# Altium footprint library drone_pcb1.PcbLib: 55 footprints (part 3 of 4)
Each footprint in its own frame and in the unit in brackets; x right, y up, seen from the top. Pads: shape width x height; smd on the part's side, far side on the other; paste and mask are expansions set on the pad; w line width, h text height; cw(c..) or ccw(c..) is an arc to the next point about the centre after c.
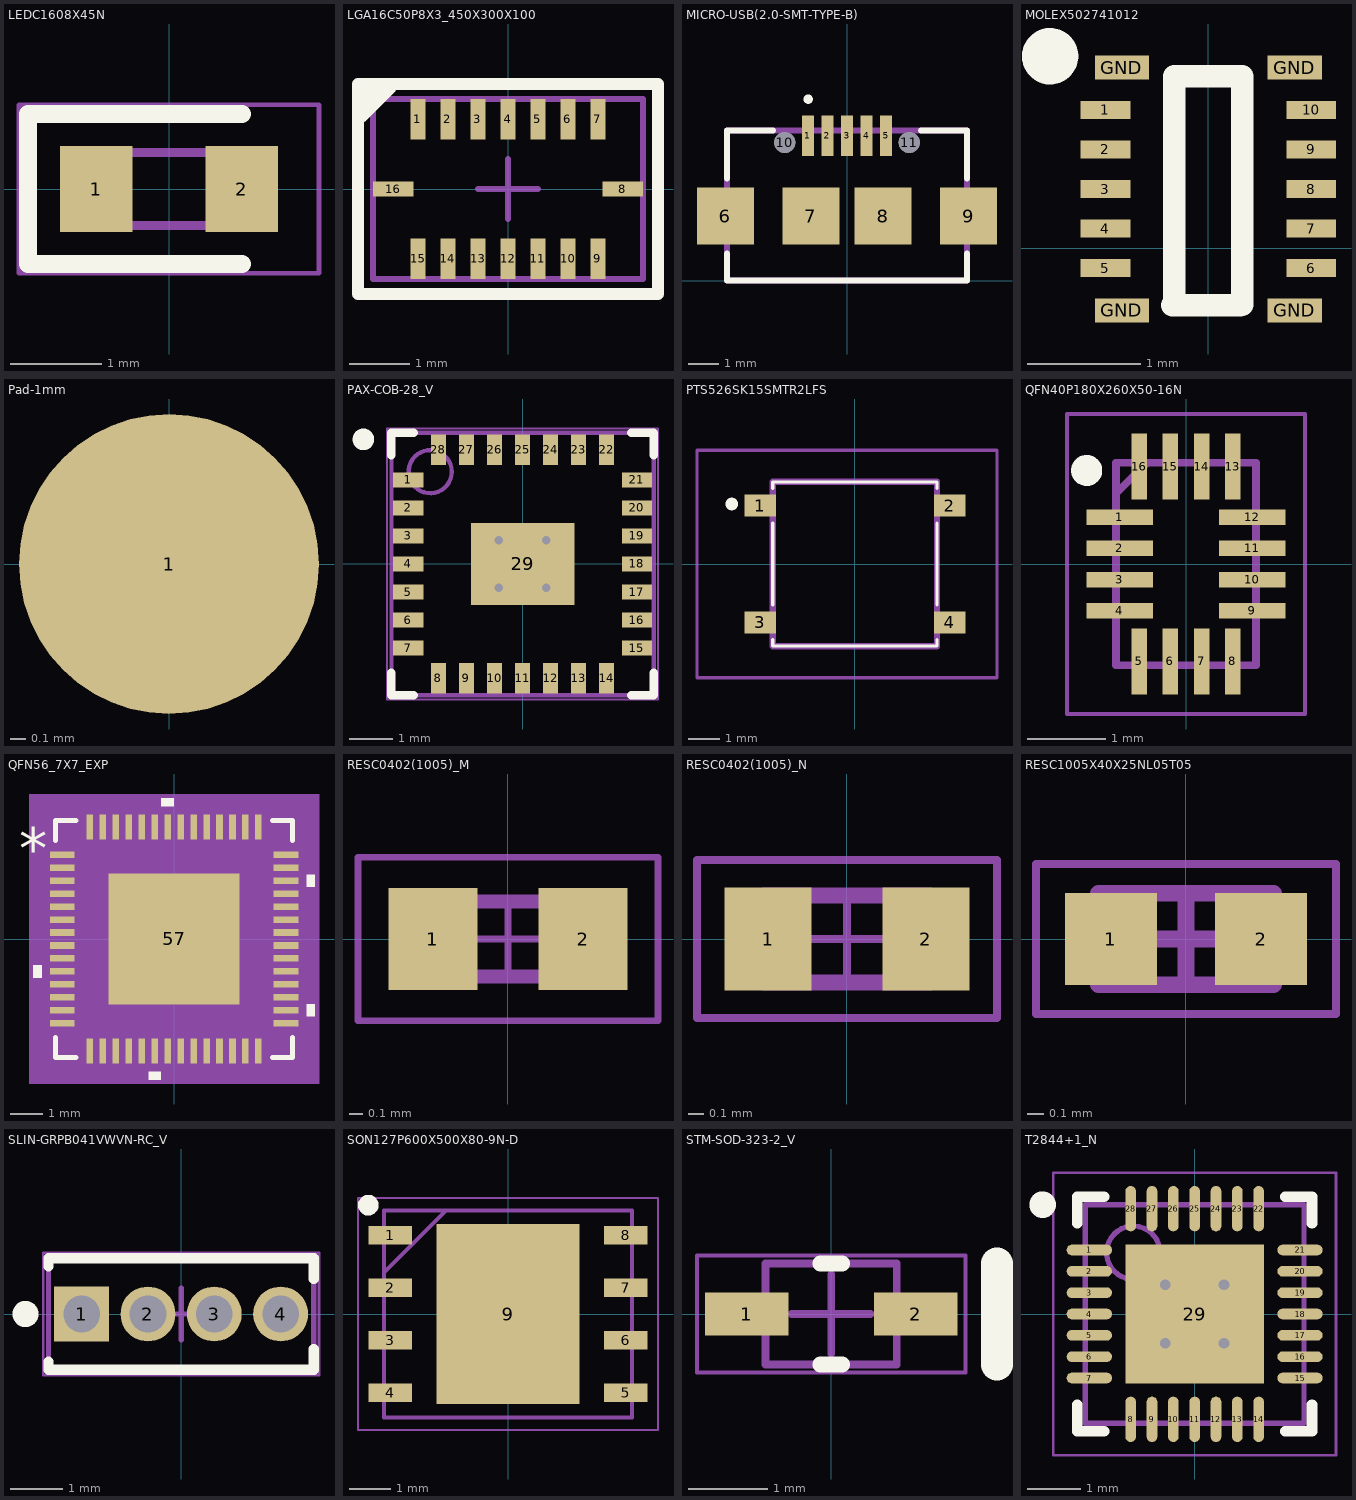
[diagram p2: the footprints below, top view; thin cyan lines are the x and y axes]

## LEDC1608X45N [mm]
pads (2):
  rect 0.8x0.95 smd: 1(-0.8,0) 2(0.8,0)
Top Overlay:
  lines w0.2: 0.8,-0.825 -1.55,-0.825 -1.55,0.825 0.8,0.825
Mechanical 13:
  lines w0.1: -0.8,0.133 -0.533,0.4 ; -0.8,-0.4 0.8,-0.4 0.8,0.4 -0.8,0.4 -0.8,-0.4
Mechanical 15:
  lines w0.05: -1.65,-0.925 1.65,-0.925 1.65,0.925 -1.65,0.925 -1.65,-0.925

## LGA16C50P8X3_450X300X100 [mm] "LGA, 16-Leads, Body 4.50x3.00mmx1.00mm, Pitch 0.50mm"
height 1
pads (16):
  rect 0.25x0.675 smd: 1(-1.5,1.165) 2(-1,1.165) 3(-0.5,1.165) 4(0,1.165) 5(0.5,1.165) 6(1,1.165) 7(1.5,1.165) 9(1.5,-1.165) 10(1,-1.165) 11(0.5,-1.165) 12(0,-1.165) 13(-0.5,-1.165) 14(-1,-1.165) 15(-1.5,-1.165)
  rect 0.675x0.25 smd: 8(1.915,0) 16(-1.915,0)
Top Overlay:
  region: -1.95,1.7 -2.45,1.2 -2.45,1.7
  lines w0.2: -2.45,1.2 -1.95,1.7 ; -2.5,-1.75 -2.5,1.75 2.5,1.75 2.5,-1.75 -2.5,-1.75
Mechanical 13:
  lines w0.1: -2.25,-1.5 -2.25,1.5 2.25,1.5 2.25,-1.5 -2.25,-1.5
Mechanical 15:
  lines w0.05: -2.5,-1.75 -2.5,1.75 2.5,1.75 2.5,-1.75 -2.5,-1.75
  lines w0.1: -0.5,0 0.5,0 ; 0,-0.5 0,0.5
3D body: height 1, standoff 0.08, extent -2.25,-1.5 2.25,1.5

## MICRO-USB(2.0-SMT-TYPE-B) [mm]
pads (11):
  rect 0.4x1.35 smd: 1(-1.3,4.825) 2(-0.65,4.825) 3(0,4.825) 4(0.65,4.825) 5(1.3,4.825)
  rect 1.9x1.9 smd: 6(-4.05,2.15) 7(-1.2,2.15) 8(1.2,2.15) 9(4.05,2.15)
  round 0.7 hole 0.7: 10(-2.075,4.6) 11(2.075,4.6)
Top Overlay:
  circle w0.2: c-1.295,6.047 r0.056
  lines w0.2: -4,0.9 -4,0 4,0 4,0.9 ; -4,3.403 -4,5 -2.459,5 ; 2.459,5 4,5 4,3.403
Mechanical 13:
  lines w0.2: -4,0 4,0 4,5 -4,5 -4,0
3D body "629105136821.stp": height 2.78, standoff -0.4, extent -4.035,-0.662 4.035,5.138

## MOLEX502741012 [mm] "10Pins 0.35mm pitch"
height 0.9
pads (14):
  rect 0.44x0.16 smd: 1(-0.91,1.225) 2(-0.91,0.875) 3(-0.91,0.525) 4(-0.91,0.175) 5(-0.91,-0.175) 6(0.91,-0.175) 7(0.91,0.175) 8(0.91,0.525) 9(0.91,0.875) 10(0.91,1.225)
  rect 0.48x0.21 smd: GND(-0.765,-0.55) GND(-0.765,1.6) GND(0.765,-0.55) GND(0.765,1.6)
Top Overlay:
  circle w0.25: c-1.4,1.7 r0.125
  lines w0.2: -0.317,-0.502 0.283,-0.502 ; -0.3,-0.5 -0.3,1.5 ; -0.3,1.524 0.3,1.524 ; 0.3,-0.5 0.3,1.5
3D body "5052741012.stp": height 0.65, standoff 0, extent -1,-1.01 1,2.05

## Pad-1mm [mm] "SMT Test Pad"
height 15
pads (1):
  round 2 smd paste-5: 1(0,0)
Mechanical 15:
  lines w0.1: -0.5,0 0.5,0 ; 0,-0.5 0,0.5

## PAX-COB-28_V [mm] "PQFN, 28-Leads, Body 6.08x6.08mm, Pitch 0.65mm, Thermal Pad 1.9x2.4mm"
height 2.36
pads (29):
  rect 0.7x0.35 smd mask+0.05: 1(-2.65,1.95) 2(-2.65,1.3) 3(-2.65,0.65) 4(-2.65,0) 5(-2.65,-0.65) 6(-2.65,-1.3) 7(-2.65,-1.95) 15(2.65,-1.95) 16(2.65,-1.3) 17(2.65,-0.65) 18(2.65,0) 19(2.65,0.65) 20(2.65,1.3) 21(2.65,1.95)
  rect 0.35x0.7 smd mask+0.05: 8(-1.95,-2.65) 9(-1.3,-2.65) 10(-0.65,-2.65) 11(0,-2.65) 12(0.65,-2.65) 13(1.3,-2.65) 14(1.95,-2.65) 22(1.95,2.65) 23(1.3,2.65) 24(0.65,2.65) 25(0,2.65) 26(-0.65,2.65) 27(-1.3,2.65) 28(-1.95,2.65)
  rect 2.4x1.9 smd mask+0: 29(0,0)
via 0.55,-0.55 diameter 0.5 hole 0.2
via -0.55,-0.55 diameter 0.5 hole 0.2
via 0.55,0.55 diameter 0.5 hole 0.2
via -0.55,0.55 diameter 0.5 hole 0.2
Top Overlay:
  circle w0.25: c-3.69,2.89 r0.125
  lines w0.2: -3.04,-2.525 -3.04,-3.04 -2.525,-3.04 ; -3.04,2.525 -3.04,3.04 -2.525,3.04 ; 2.525,-3.04 3.04,-3.04 3.04,-2.525 ; 2.525,3.04 3.04,3.04 3.04,2.525
Mechanical 13:
  circle w0.1: c-2.14,2.14 r0.5
  lines w0.1: -3.04,-3.04 3.04,-3.04 3.04,3.04 -3.04,3.04 -3.04,-3.04
Mechanical 15:
  lines w0.05: -3.14,-3.14 3.14,-3.14 3.14,3.14 -3.14,3.14 -3.14,-3.14
  lines w0.1: -0.5,0 0.5,0 ; 0,-0.5 0,0.5
3D body "PQFN65P600X600X236_HS-29L.step": height 2.36, standoff 0, extent -3.04,-3.04 3.04,3.04

## PTS526SK15SMTR2LFS [mm]
pads (4):
  rect 1x0.7 smd: 1(-3,1.85) 2(3,1.85) 3(-3,-1.85) 4(3,-1.85)
Top Overlay:
  lines w0.1: -2.6,-2.4 -2.6,-2.6 2.6,-2.6 2.6,-2.4 ; -2.6,-1.3 -2.6,1.3 ; -2.6,2.4 -2.6,2.6 2.6,2.6 2.6,2.4 ; 2.6,-1.3 2.6,1.3
  lines w0.2: -4,1.9 ccw(c-3.9,1.9) -3.8,1.9 ccw(c-3.9,1.9) -4,1.9
Mechanical 13:
  lines w0.2: -2.6,-2.6 2.6,-2.6 2.6,2.6 -2.6,2.6 -2.6,-2.6
Mechanical 15:
  lines w0.1: -5,-3.6 4.5,-3.6 4.5,3.6 -5,3.6 -5,-3.6
3D body "PTS526_SK15_SMTR2_LFS.stp": height 1.55, standoff 0, extent -3.2,-2.6 3.2,2.6

## QFN40P180X260X50-16N [mm]
pads (16):
  rect 0.85x0.2 smd: 1(-0.85,0.6) 2(-0.85,0.2) 3(-0.85,-0.2) 4(-0.85,-0.6) 9(0.85,-0.6) 10(0.85,-0.2) 11(0.85,0.2) 12(0.85,0.6)
  rect 0.2x0.85 smd: 5(-0.6,-1.25) 6(-0.2,-1.25) 7(0.2,-1.25) 8(0.6,-1.25) 13(0.6,1.25) 14(0.2,1.25) 15(-0.2,1.25) 16(-0.6,1.25)
Top Overlay:
  circle w0.2: c-1.275,1.2 r0.1
Mechanical 13:
  lines w0.1: -0.9,0.9 -0.5,1.3 ; -0.9,-1.3 0.9,-1.3 0.9,1.3 -0.9,1.3 -0.9,-1.3
Mechanical 15:
  lines w0.05: -1.525,-1.925 1.525,-1.925 1.525,1.925 -1.525,1.925 -1.525,-1.925
3D body "PCAL6408AHKX.stp": height 0.5, standoff 0, extent -0.95,-1.35 0.95,1.35

## QFN56_7X7_EXP [mil]
pads (57):
  rect 30x8 smd paste+0 mask+0: 1(-136,102.36) 2(-136,86.61) 3(-136,70.87) 4(-136,55.12) 5(-136,39.37) 6(-136,23.62) 7(-136,7.87) 8(-136,-7.87) 9(-136,-23.62) 10(-136,-39.37) 11(-136,-55.12) 12(-136,-70.87) 13(-136,-86.61) 14(-136,-102.36) 29(136,-102.36) 30(136,-86.61) 31(136,-70.87) 32(136,-55.12) 33(136,-39.37) 34(136,-23.62) 35(136,-7.87) 36(136,7.87) 37(136,23.62) 38(136,39.37) 39(136,55.12) 40(136,70.87) 41(136,86.61) 42(136,102.36)
  rect 8x30 smd paste+0 mask+0: 15(-102.36,-136) 16(-86.61,-136) 17(-70.87,-136) 18(-55.12,-136) 19(-39.37,-136) 20(-23.62,-136) 21(-7.87,-136) 22(7.87,-136) 23(23.62,-136) 24(39.37,-136) 25(55.12,-136) 26(70.87,-136) 27(86.61,-136) 28(102.36,-136) 43(102.36,136) 44(86.61,136) 45(70.87,136) 46(55.12,136) 47(39.37,136) 48(23.62,136) 49(7.87,136) 50(-7.87,136) 51(-23.62,136) 52(-39.37,136) 53(-55.12,136) 54(-70.87,136) 55(-86.61,136) 56(-102.36,136)
  rect 159x159 smd paste-79 mask+0: 57(0,0)
Top Overlay:
  region: -161,-31.87 -171,-31.87 -171,-46.87 -161,-46.87
  region: -16.12,-161 -31.12,-161 -31.12,-171 -16.12,-171
  region: 161,-79.11 171,-79.11 171,-94.11 161,-94.11
  region: 161,78.37 171,78.37 171,63.37 161,63.37
  region: -0.37,161 -15.37,161 -15.37,171 -0.37,171
  lines w6: -144,-119.46 -144,-144 -119.46,-144 ; -144,119.46 -144,144 -119.46,144 ; 119.46,-144 144,-144 144,-119.46 ; 119.46,144 144,144 144,119.46
  text "*" at -188.5,85.24 h50
Top Paste:
  region: -30.44,75.56 -75.56,75.56 -75.56,30.44 -30.44,30.44
  region: -30.44,22.56 -75.56,22.56 -75.56,-22.56 -30.44,-22.56
  region: -30.44,-30.44 -75.56,-30.44 -75.56,-75.56 -30.44,-75.56
  region: 22.56,75.56 -22.56,75.56 -22.56,30.44 22.56,30.44
  region: 22.56,22.56 -22.56,22.56 -22.56,-22.56 22.56,-22.56
  region: 22.56,-30.44 -22.56,-30.44 -22.56,-75.56 22.56,-75.56
  region: 75.56,75.56 30.44,75.56 30.44,30.44 75.56,30.44
  region: 75.56,22.56 30.44,22.56 30.44,-22.56 75.56,-22.56
  region: 75.56,-30.44 30.44,-30.44 30.44,-75.56 75.56,-75.56
Top Assembly:
  region: 176,-176 -176,-176 -176,176 176,176
Mechanical 13:
  lines w1: -139,89 -89,139 ; -139,-139 139,-139 139,139 -139,139 -139,-139 ; -139,-107.36 -139,-97.36 -139,-107.36 ; -139,-91.61 -139,-81.61 -139,-91.61 ; -139,-75.87 -139,-65.87 -139,-75.87 ; -139,-60.12 -139,-50.12 -139,-60.12 ; -139,-44.37 -139,-34.37 -139,-44.37 ; -139,-28.62 -139,-18.62 -139,-28.62 ; -139,-12.87 -139,-2.87 -139,-12.87 ; -139,2.87 -139,12.87 -139,2.87 ; -139,18.62 -139,28.62 -139,18.62 ; -139,34.37 -139,44.37 -139,34.37 ; -139,50.12 -139,60.12 -139,50.12 ; -139,65.87 -139,75.87 -139,65.87 ; -139,81.61 -139,91.61 -139,81.61 ; -139,97.36 -139,107.36 -139,97.36 ; -107.36,-139 -97.36,-139 -107.36,-139 ; -107.36,139 -97.36,139 -107.36,139 ; -91.61,-139 -81.61,-139 -91.61,-139 ; -91.61,139 -81.61,139 -91.61,139 ; -75.87,-139 -65.87,-139 -75.87,-139 ; -75.87,139 -65.87,139 -75.87,139 ; -60.12,-139 -50.12,-139 -60.12,-139 ; -60.12,139 -50.12,139 -60.12,139 ; -44.37,-139 -34.37,-139 -44.37,-139 ; -44.37,139 -34.37,139 -44.37,139 ; -28.62,-139 -18.62,-139 -28.62,-139 ; -28.62,139 -18.62,139 -28.62,139 ; -12.87,-139 -2.87,-139 -12.87,-139 ; -12.87,139 -2.87,139 -12.87,139 ; 2.87,-139 12.87,-139 2.87,-139 ; 2.87,139 12.87,139 2.87,139 ; 18.62,-139 28.62,-139 18.62,-139 ; 18.62,139 28.62,139 18.62,139 ; 34.37,-139 44.37,-139 34.37,-139 ; 34.37,139 44.37,139 34.37,139 ; 50.12,-139 60.12,-139 50.12,-139 ; 50.12,139 60.12,139 50.12,139 ; 65.87,-139 75.87,-139 65.87,-139 ; 65.87,139 75.87,139 65.87,139 ; 81.61,-139 91.61,-139 81.61,-139 ; 81.61,139 91.61,139 81.61,139 ; 97.36,-139 107.36,-139 97.36,-139 ; 97.36,139 107.36,139 97.36,139 ; 139,-107.36 139,-97.36 139,-107.36 ; 139,-91.61 139,-81.61 139,-91.61 ; 139,-75.87 139,-65.87 139,-75.87 ; 139,-60.12 139,-50.12 139,-60.12 ; 139,-44.37 139,-34.37 139,-44.37 ; 139,-28.62 139,-18.62 139,-28.62 ; 139,-12.87 139,-2.87 139,-12.87 ; 139,2.87 139,12.87 139,2.87 ; 139,18.62 139,28.62 139,18.62 ; 139,34.37 139,44.37 139,34.37 ; 139,50.12 139,60.12 139,50.12 ; 139,65.87 139,75.87 139,65.87 ; 139,81.61 139,91.61 139,81.61 ; 139,97.36 139,107.36 139,97.36
  text "*" at -133.5,85.24 h50
Mechanical 15:
  region: -116.36,-149 -149,-149 -149,-116.36 -161,-116.36 -161,116.36 -149,116.36 -149,149 -116.36,149 -116.36,161 116.36,161 116.36,149 149,149 149,116.36 161,116.36 161,-116.36 149,-116.36 149,-149 116.36,-149 116.36,-161 -116.36,-161
  lines w6: -161,-116.36 -149,-116.36 -149,-149 -116.36,-149 -116.36,-161 116.36,-161 116.36,-149 149,-149 149,-116.36 161,-116.36 161,116.36 149,116.36 149,149 116.36,149 116.36,161 -116.36,161 -116.36,149 -149,149 -149,116.36 -161,116.36 -161,-116.36
3D body "QFN56_7X7_EXP.step": height 35.12, standoff 0, extent -139.02,-139.02 139.02,139.02

## RESC0402(1005)_M [mm] "Chip Resistor, Body 1.0x0.5mm, IPC Low Density"
height 0.4
pads (2):
  rect 0.65x0.75 smd: 1(-0.55,0) 2(0.55,0)
Mechanical 13:
  lines w0.1: -0.525,-0.275 -0.525,0.275 0.525,0.275 0.525,-0.275 -0.525,-0.275
Mechanical 15:
  lines w0.05: -0.275,0 0.275,0 ; 0,-0.275 0,0.275 ; -1.1,-0.6 -1.1,0.6 1.1,0.6 1.1,-0.6 -1.1,-0.6
3D body: height 0.4, standoff 0, extent -0.525,-0.275 -0.3,0.275
3D body: height 0.4, standoff 0, extent -0.3,-0.275 0.3,0.275
3D body: height 0.4, standoff 0, extent 0.3,-0.275 0.525,0.275

## RESC0402(1005)_N [mm] "Chip Resistor, Body 1.0x0.5mm, IPC Medium Density"
height 0.4
pads (2):
  rect 0.55x0.65 smd: 1(-0.5,0) 2(0.5,0)
Mechanical 13:
  lines w0.1: -0.525,-0.275 -0.525,0.275 0.525,0.275 0.525,-0.275 -0.525,-0.275
Mechanical 15:
  lines w0.05: -0.275,0 0.275,0 ; 0,-0.275 0,0.275 ; -0.95,-0.5 -0.95,0.5 0.95,0.5 0.95,-0.5 -0.95,-0.5
3D body: height 0.4, standoff 0, extent 0.3,-0.275 0.525,0.275
3D body: height 0.4, standoff 0, extent -0.3,-0.275 0.3,0.275
3D body: height 0.4, standoff 0, extent -0.525,-0.275 -0.3,0.275

## RESC1005X40X25NL05T05 [mm] "Chip Resistor, 2-Leads, Body 1.05x0.55mm, IPC Medium Density"
height 0.4
pads (2):
  rect 0.55x0.55 smd: 1(-0.45,0) 2(0.45,0)
Mechanical 13:
  lines w0.1: -0.525,-0.275 0.525,-0.275 0.525,0.275 -0.525,0.275 -0.525,-0.275
Mechanical 15:
  lines w0.05: -0.9,-0.45 0.9,-0.45 0.9,0.45 -0.9,0.45 -0.9,-0.45
  lines w0.1: -0.275,0 0.275,0 ; 0,-0.275 0,0.275
3D body "RESC1005X04N.step": height 0.4, standoff 0, extent -0.525,-0.275 0.525,0.275

## SLIN-GRPB041VWVN-RC_V [mm] "Header, 4-Leads, Body 5.08x2.14mm, Pitch 1.27mm"
height 4
pads (4):
  rect 1.05x1.05 hole 0.7: 1(-1.905,0)
  round 1.05 hole 0.7: 2(-0.635,0) 3(0.635,0) 4(1.905,0)
Top Overlay:
  circle w0.25: c-2.98,0 r0.125
  lines w0.2: -2.54,-0.91 -2.54,-1.07 2.54,-1.07 2.54,-0.673 ; -2.54,0.91 -2.54,1.07 2.54,1.07 2.54,0.673
Mechanical 13:
  lines w0.1: -2.54,-1.07 -2.54,1.07 2.54,1.07 2.54,-1.07 -2.54,-1.07
Mechanical 15:
  lines w0.05: -2.64,-1.17 2.64,-1.17 2.64,1.17 -2.64,1.17 -2.64,-1.17
  lines w0.1: -0.5,0 0.5,0 ; 0,-0.5 0,0.5
3D body "_ _ _B041VWVN-RC.STEP": height 4, standoff -2.3, extent -2.54,-1.07 2.54,1.07

## SON127P600X500X80-9N-D [mm]
pads (9):
  rect 1.05x0.45 smd: 1(-2.85,1.905) 2(-2.85,0.635) 3(-2.85,-0.635) 4(-2.85,-1.905) 5(2.85,-1.905) 6(2.85,-0.635) 7(2.85,0.635) 8(2.85,1.905)
  rect 3.45x4.35 smd: 9(0,0)
Top Overlay:
  circle w0.25: c-3.375,2.63 r0.125
Mechanical 13:
  lines w0.1: -3,1 -1.5,2.5 ; -3,-2.5 -3,2.5 3,2.5 3,-2.5 -3,-2.5
Mechanical 15:
  lines w0.05: -3.625,-2.8 -3.625,2.8 3.625,2.8 3.625,-2.8 -3.625,-2.8
3D body "W25Q32JVZPIQ_TR.stp": height 0.8, standoff 0, extent -3.05,-2.5 3.05,2.5

## STM-SOD-323-2_V [mm] "SMD, 2-Leads, Body 1.66x1.28mm"
height 1.17
pads (2):
  rect 1.06x0.54 smd: 1(-1.07,0) 2(1.07,0)
Top Overlay:
  lines w0.2: -0.14,-0.64 0.14,-0.64 ; -0.14,0.64 0.14,0.64
  lines w0.4: 2.1,-0.64 2.1,0.64
Mechanical 13:
  lines w0.1: -0.83,-0.64 0.83,-0.64 0.83,0.64 -0.83,0.64 -0.83,-0.64
Mechanical 15:
  lines w0.05: -1.7,-0.74 -1.7,0.74 1.7,0.74 1.7,-0.74 -1.7,-0.74
  lines w0.1: -0.5,0 0.5,0 ; 0,-0.5 0,0.5
3D body: height 1.17, standoff 0, extent -0.83,-0.64 0.83,0.64

## T2844+1_N [mm] "QFN, 28-Leads, Body 4x4mm, Pitch 0.4mm, Thermal Pad 2.4x2.4mm, IPC Medium Density"
height 0.8
pads (29):
  oval 0.85x0.2 smd: 1(-1.975,1.2) 2(-1.975,0.8) 3(-1.975,0.4) 4(-1.975,0) 5(-1.975,-0.4) 6(-1.975,-0.8) 7(-1.975,-1.2) 15(1.975,-1.2) 16(1.975,-0.8) 17(1.975,-0.4) 18(1.975,0) 19(1.975,0.4) 20(1.975,0.8) 21(1.975,1.2)
  oval 0.2x0.85 smd: 8(-1.2,-1.975) 9(-0.8,-1.975) 10(-0.4,-1.975) 11(0,-1.975) 12(0.4,-1.975) 13(0.8,-1.975) 14(1.2,-1.975) 22(1.2,1.975) 23(0.8,1.975) 24(0.4,1.975) 25(0,1.975) 26(-0.4,1.975) 27(-0.8,1.975) 28(-1.2,1.975)
  rect 2.6x2.6 smd: 29(0,0)
via 0.55,-0.55 diameter 0.5 hole 0.2
via -0.55,-0.55 diameter 0.5 hole 0.2
via 0.55,0.55 diameter 0.5 hole 0.2
via -0.55,0.55 diameter 0.5 hole 0.2
Top Overlay:
  circle w0.25: c-2.85,2.05 r0.125
  lines w0.2: -2.2,-1.7 -2.2,-2.2 -1.7,-2.2 ; -2.2,1.7 -2.2,2.2 -1.7,2.2 ; 1.7,-2.2 2.2,-2.2 2.2,-1.7 ; 1.7,2.2 2.2,2.2 2.2,1.7
Mechanical 13:
  circle w0.1: c-1.15,1.15 r0.5
  lines w0.1: -2.05,-2.05 2.05,-2.05 2.05,2.05 -2.05,2.05 -2.05,-2.05
Mechanical 15:
  lines w0.05: -2.65,-2.65 2.65,-2.65 2.65,2.65 -2.65,2.65 -2.65,-2.65
  lines w0.1: -0.5,0 0.5,0 ; 0,-0.5 0,0.5
3D body: height 0.8, standoff 0, extent -2.05,-2.05 2.05,2.05